# Altium integrated library Maxim Real-Time Clocks (RTCs).IntLib: 548 symbols (part 6 of 13)
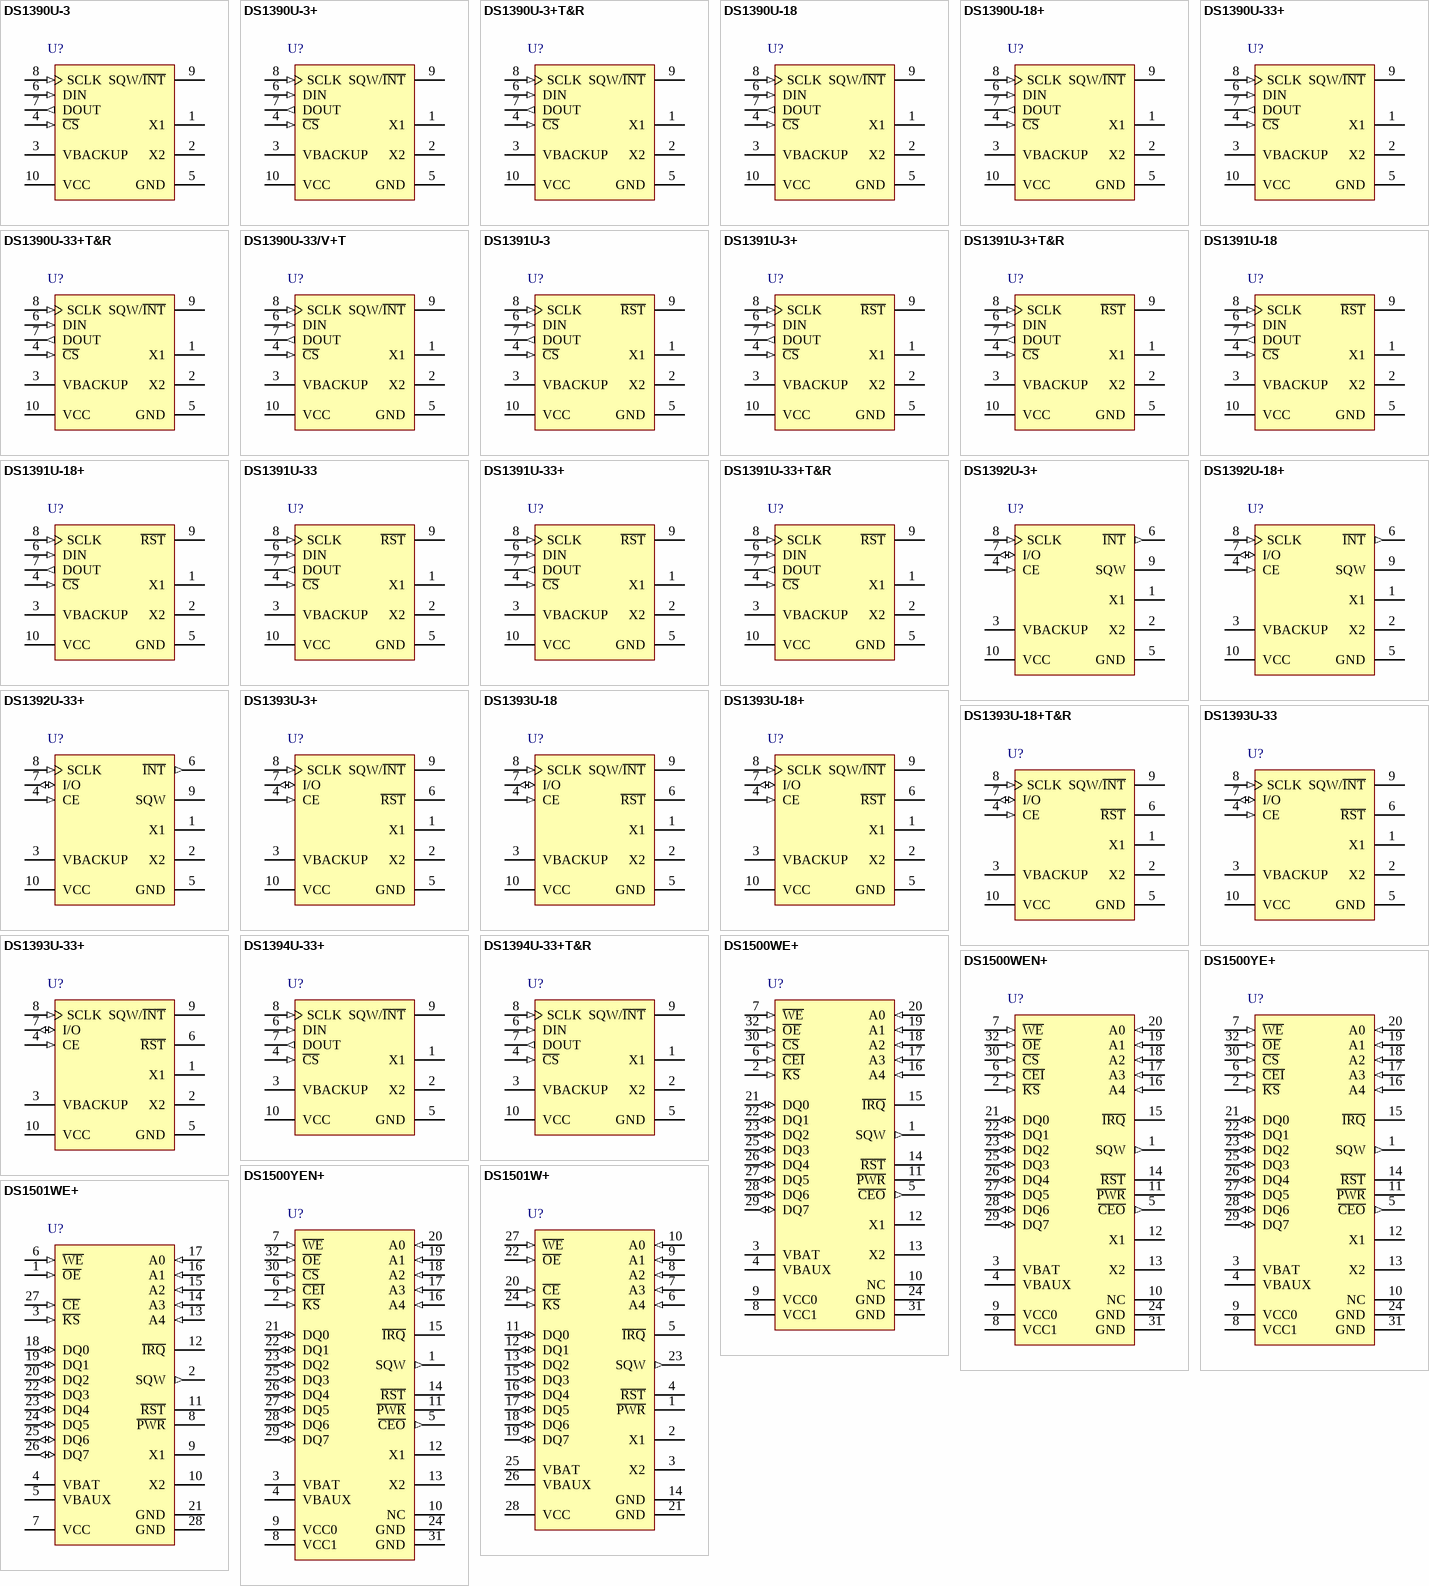
[diagram p26: symbols DS1390U-3 to DS1501WE+]

## DS1390U-33/V+T
designator U?
SPI Real-Time Clock with Trickle Charger, 3.3V, 10-Pin uSOP, -40 to 85 degC, Pb-Free; DatasheetVersion: rev3, Aug-2009; PackageVersion: revL, 2008; PackageReference: U10+2; PackageDescription: 10-Pin Micro-MAX Thin Shrink Small Outline (uSOP), 3 x 3 x 0.85 mm Body, 0.5 mm Pitch, Pb-Free; Code_JEDEC: MO-187-BA; ComponentLink1Description: Manufacturer URL; ComponentLink1URL: http://www.maxim-ic.com; ComponentLink2Description: Datasheet; ComponentLink2URL: http://datasheets.maxim-ic.com/en/ds/DS1390-DS1394.pdf; ComponentLink3Description: Package Specification; ComponentLink3URL: http://pdfserv.maxim-ic.com/package_dwgs/21-0061.PDF
footprint U10+2_N (TSSOP, 10-Leads, Body 3x3mm, Pitch 0.5mm, IPC Medium Density)
footprint U10+2_L (TSSOP, 10-Leads, Body 3x3mm, Pitch 0.5mm, IPC High Density)
footprint U10+2_M (TSSOP, 10-Leads, Body 3x3mm, Pitch 0.5mm, IPC Low Density)
pins: 1 X1, 2 X2, 3 VBACKUP (power), 4 ~{CS} (in), 5 GND (power), 6 DIN (in), 7 DOUT (out), 8 SCLK (in), 9 SQW/~{INT} (oc), 10 VCC (power)

## DS1391U-3
designator U?
SPI Real-Time Clock with Trickle Charger, 3.0V, 10-Pin uSOP, -40 to 85 degC; DatasheetVersion: rev3, Aug-2009; PackageVersion: revL, 2008; PackageReference: U10-2; PackageDescription: 10-Pin Micro-MAX Thin Shrink Small Outline (uSOP), 3 x 3 x 0.85 mm Body, 0.5 mm Pitch; Code_JEDEC: MO-187-BA; ComponentLink1Description: Manufacturer URL; ComponentLink1URL: http://www.maxim-ic.com; ComponentLink2Description: Datasheet; ComponentLink2URL: http://datasheets.maxim-ic.com/en/ds/DS1390-DS1394.pdf; ComponentLink3Description: Package Specification; ComponentLink3URL: http://pdfserv.maxim-ic.com/package_dwgs/21-0061.PDF
footprint U10-2_N (TSSOP, 10-Leads, Body 3x3mm, Pitch 0.5mm, IPC Medium Density)
footprint U10-2_L (TSSOP, 10-Leads, Body 3x3mm, Pitch 0.5mm, IPC High Density)
footprint U10-2_M (TSSOP, 10-Leads, Body 3x3mm, Pitch 0.5mm, IPC Low Density)
pins: 1 X1, 2 X2, 3 VBACKUP (power), 4 ~{CS} (in), 5 GND (power), 6 DIN (in), 7 DOUT (out), 8 SCLK (in), 9 ~{RST} (hiz), 10 VCC (power)

## DS1391U-3+
designator U?
SPI Real-Time Clock with Trickle Charger, 3.0V, 10-Pin uSOP, -40 to 85 degC, Pb-Free; DatasheetVersion: rev3, Aug-2009; PackageVersion: revL, 2008; PackageReference: U10+2; PackageDescription: 10-Pin Micro-MAX Thin Shrink Small Outline (uSOP), 3 x 3 x 0.85 mm Body, 0.5 mm Pitch, Pb-Free; Code_JEDEC: MO-187-BA; ComponentLink1Description: Manufacturer URL; ComponentLink1URL: http://www.maxim-ic.com; ComponentLink2Description: Datasheet; ComponentLink2URL: http://datasheets.maxim-ic.com/en/ds/DS1390-DS1394.pdf; ComponentLink3Description: Package Specification; ComponentLink3URL: http://pdfserv.maxim-ic.com/package_dwgs/21-0061.PDF
footprint U10+2_N (TSSOP, 10-Leads, Body 3x3mm, Pitch 0.5mm, IPC Medium Density)
footprint U10+2_L (TSSOP, 10-Leads, Body 3x3mm, Pitch 0.5mm, IPC High Density)
footprint U10+2_M (TSSOP, 10-Leads, Body 3x3mm, Pitch 0.5mm, IPC Low Density)
pins: 1 X1, 2 X2, 3 VBACKUP (power), 4 ~{CS} (in), 5 GND (power), 6 DIN (in), 7 DOUT (out), 8 SCLK (in), 9 ~{RST} (hiz), 10 VCC (power)

## DS1391U-3+T&R
designator U?
SPI Real-Time Clock with Trickle Charger, 3.0V, 10-Pin uSOP, -40 to 85 degC, Pb-Free, Reel; DatasheetVersion: rev3, Aug-2009; PackageVersion: revL, 2008; PackageReference: U10+2; PackageDescription: 10-Pin Micro-MAX Thin Shrink Small Outline (uSOP), 3 x 3 x 0.85 mm Body, 0.5 mm Pitch, Pb-Free; Code_JEDEC: MO-187-BA; ComponentLink1Description: Manufacturer URL; ComponentLink1URL: http://www.maxim-ic.com; ComponentLink2Description: Datasheet; ComponentLink2URL: http://datasheets.maxim-ic.com/en/ds/DS1390-DS1394.pdf; ComponentLink3Description: Package Specification; ComponentLink3URL: http://pdfserv.maxim-ic.com/package_dwgs/21-0061.PDF
footprint U10+2_N (TSSOP, 10-Leads, Body 3x3mm, Pitch 0.5mm, IPC Medium Density)
footprint U10+2_L (TSSOP, 10-Leads, Body 3x3mm, Pitch 0.5mm, IPC High Density)
footprint U10+2_M (TSSOP, 10-Leads, Body 3x3mm, Pitch 0.5mm, IPC Low Density)
pins: 1 X1, 2 X2, 3 VBACKUP (power), 4 ~{CS} (in), 5 GND (power), 6 DIN (in), 7 DOUT (out), 8 SCLK (in), 9 ~{RST} (hiz), 10 VCC (power)

## DS1391U-18
designator U?
SPI Real-Time Clock with Trickle Charger, 1.8V, 10-Pin uSOP, -40 to 85 degC; DatasheetVersion: rev3, Aug-2009; PackageVersion: revL, 2008; PackageReference: U10-2; PackageDescription: 10-Pin Micro-MAX Thin Shrink Small Outline (uSOP), 3 x 3 x 0.85 mm Body, 0.5 mm Pitch; Code_JEDEC: MO-187-BA; ComponentLink1Description: Manufacturer URL; ComponentLink1URL: http://www.maxim-ic.com; ComponentLink2Description: Datasheet; ComponentLink2URL: http://datasheets.maxim-ic.com/en/ds/DS1390-DS1394.pdf; ComponentLink3Description: Package Specification; ComponentLink3URL: http://pdfserv.maxim-ic.com/package_dwgs/21-0061.PDF
footprint U10-2_N (TSSOP, 10-Leads, Body 3x3mm, Pitch 0.5mm, IPC Medium Density)
footprint U10-2_L (TSSOP, 10-Leads, Body 3x3mm, Pitch 0.5mm, IPC High Density)
footprint U10-2_M (TSSOP, 10-Leads, Body 3x3mm, Pitch 0.5mm, IPC Low Density)
pins: 1 X1, 2 X2, 3 VBACKUP (power), 4 ~{CS} (in), 5 GND (power), 6 DIN (in), 7 DOUT (out), 8 SCLK (in), 9 ~{RST} (hiz), 10 VCC (power)

## DS1391U-18+
designator U?
SPI Real-Time Clock with Trickle Charger, 1.8V, 10-Pin uSOP, -40 to 85 degC, Pb-Free; DatasheetVersion: rev3, Aug-2009; PackageVersion: revL, 2008; PackageReference: U10+2; PackageDescription: 10-Pin Micro-MAX Thin Shrink Small Outline (uSOP), 3 x 3 x 0.85 mm Body, 0.5 mm Pitch, Pb-Free; Code_JEDEC: MO-187-BA; ComponentLink1Description: Manufacturer URL; ComponentLink1URL: http://www.maxim-ic.com; ComponentLink2Description: Datasheet; ComponentLink2URL: http://datasheets.maxim-ic.com/en/ds/DS1390-DS1394.pdf; ComponentLink3Description: Package Specification; ComponentLink3URL: http://pdfserv.maxim-ic.com/package_dwgs/21-0061.PDF
footprint U10+2_N (TSSOP, 10-Leads, Body 3x3mm, Pitch 0.5mm, IPC Medium Density)
footprint U10+2_L (TSSOP, 10-Leads, Body 3x3mm, Pitch 0.5mm, IPC High Density)
footprint U10+2_M (TSSOP, 10-Leads, Body 3x3mm, Pitch 0.5mm, IPC Low Density)
pins: 1 X1, 2 X2, 3 VBACKUP (power), 4 ~{CS} (in), 5 GND (power), 6 DIN (in), 7 DOUT (out), 8 SCLK (in), 9 ~{RST} (hiz), 10 VCC (power)

## DS1391U-33
designator U?
SPI Real-Time Clock with Trickle Charger, 3.3V, 10-Pin uSOP, -40 to 85 degC; DatasheetVersion: rev3, Aug-2009; PackageVersion: revL, 2008; PackageReference: U10-2; PackageDescription: 10-Pin Micro-MAX Thin Shrink Small Outline (uSOP), 3 x 3 x 0.85 mm Body, 0.5 mm Pitch; Code_JEDEC: MO-187-BA; ComponentLink1Description: Manufacturer URL; ComponentLink1URL: http://www.maxim-ic.com; ComponentLink2Description: Datasheet; ComponentLink2URL: http://datasheets.maxim-ic.com/en/ds/DS1390-DS1394.pdf; ComponentLink3Description: Package Specification; ComponentLink3URL: http://pdfserv.maxim-ic.com/package_dwgs/21-0061.PDF
footprint U10-2_N (TSSOP, 10-Leads, Body 3x3mm, Pitch 0.5mm, IPC Medium Density)
footprint U10-2_L (TSSOP, 10-Leads, Body 3x3mm, Pitch 0.5mm, IPC High Density)
footprint U10-2_M (TSSOP, 10-Leads, Body 3x3mm, Pitch 0.5mm, IPC Low Density)
pins: 1 X1, 2 X2, 3 VBACKUP (power), 4 ~{CS} (in), 5 GND (power), 6 DIN (in), 7 DOUT (out), 8 SCLK (in), 9 ~{RST} (hiz), 10 VCC (power)

## DS1391U-33+
designator U?
SPI Real-Time Clock with Trickle Charger, 3.3V, 10-Pin uSOP, -40 to 85 degC, Pb-Free; DatasheetVersion: rev3, Aug-2009; PackageVersion: revL, 2008; PackageReference: U10+2; PackageDescription: 10-Pin Micro-MAX Thin Shrink Small Outline (uSOP), 3 x 3 x 0.85 mm Body, 0.5 mm Pitch, Pb-Free; Code_JEDEC: MO-187-BA; ComponentLink1Description: Manufacturer URL; ComponentLink1URL: http://www.maxim-ic.com; ComponentLink2Description: Datasheet; ComponentLink2URL: http://datasheets.maxim-ic.com/en/ds/DS1390-DS1394.pdf; ComponentLink3Description: Package Specification; ComponentLink3URL: http://pdfserv.maxim-ic.com/package_dwgs/21-0061.PDF
footprint U10+2_N (TSSOP, 10-Leads, Body 3x3mm, Pitch 0.5mm, IPC Medium Density)
footprint U10+2_L (TSSOP, 10-Leads, Body 3x3mm, Pitch 0.5mm, IPC High Density)
footprint U10+2_M (TSSOP, 10-Leads, Body 3x3mm, Pitch 0.5mm, IPC Low Density)
pins: 1 X1, 2 X2, 3 VBACKUP (power), 4 ~{CS} (in), 5 GND (power), 6 DIN (in), 7 DOUT (out), 8 SCLK (in), 9 ~{RST} (hiz), 10 VCC (power)

## DS1391U-33+T&R
designator U?
SPI Real-Time Clock with Trickle Charger, 3.3V, 10-Pin uSOP, -40 to 85 degC, Pb-Free, Reel; DatasheetVersion: rev3, Aug-2009; PackageVersion: revL, 2008; PackageReference: U10+2; PackageDescription: 10-Pin Micro-MAX Thin Shrink Small Outline (uSOP), 3 x 3 x 0.85 mm Body, 0.5 mm Pitch, Pb-Free; Code_JEDEC: MO-187-BA; ComponentLink1Description: Manufacturer URL; ComponentLink1URL: http://www.maxim-ic.com; ComponentLink2Description: Datasheet; ComponentLink2URL: http://datasheets.maxim-ic.com/en/ds/DS1390-DS1394.pdf; ComponentLink3Description: Package Specification; ComponentLink3URL: http://pdfserv.maxim-ic.com/package_dwgs/21-0061.PDF
footprint U10+2_N (TSSOP, 10-Leads, Body 3x3mm, Pitch 0.5mm, IPC Medium Density)
footprint U10+2_L (TSSOP, 10-Leads, Body 3x3mm, Pitch 0.5mm, IPC High Density)
footprint U10+2_M (TSSOP, 10-Leads, Body 3x3mm, Pitch 0.5mm, IPC Low Density)
pins: 1 X1, 2 X2, 3 VBACKUP (power), 4 ~{CS} (in), 5 GND (power), 6 DIN (in), 7 DOUT (out), 8 SCLK (in), 9 ~{RST} (hiz), 10 VCC (power)

## DS1392U-3+
designator U?
3-Wire Real-Time Clock with Trickle Charger, 3.0V, 10-Pin uSOP, -40 to 85 degC, Pb-Free; DatasheetVersion: rev3, Aug-2009; PackageVersion: revL, 2008; PackageReference: U10+2; PackageDescription: 10-Pin Micro-MAX Thin Shrink Small Outline (uSOP), 3 x 3 x 0.85 mm Body, 0.5 mm Pitch, Pb-Free; Code_JEDEC: MO-187-BA; ComponentLink1Description: Manufacturer URL; ComponentLink1URL: http://www.maxim-ic.com; ComponentLink2Description: Datasheet; ComponentLink2URL: http://datasheets.maxim-ic.com/en/ds/DS1390-DS1394.pdf; ComponentLink3Description: Package Specification; ComponentLink3URL: http://pdfserv.maxim-ic.com/package_dwgs/21-0061.PDF
footprint U10+2_N (TSSOP, 10-Leads, Body 3x3mm, Pitch 0.5mm, IPC Medium Density)
footprint U10+2_L (TSSOP, 10-Leads, Body 3x3mm, Pitch 0.5mm, IPC High Density)
footprint U10+2_M (TSSOP, 10-Leads, Body 3x3mm, Pitch 0.5mm, IPC Low Density)
pins: 1 X1, 2 X2, 3 VBACKUP (power), 4 CE (in), 5 GND (power), 6 ~{INT} (out), 7 I/O (io), 8 SCLK (in), 9 SQW (oc), 10 VCC (power)

## DS1392U-18+
designator U?
3-Wire Real-Time Clock with Trickle Charger, 1.8V, 10-Pin uSOP, -40 to 85 degC, Pb-Free; DatasheetVersion: rev3, Aug-2009; PackageVersion: revL, 2008; PackageReference: U10+2; PackageDescription: 10-Pin Micro-MAX Thin Shrink Small Outline (uSOP), 3 x 3 x 0.85 mm Body, 0.5 mm Pitch, Pb-Free; Code_JEDEC: MO-187-BA; ComponentLink1Description: Manufacturer URL; ComponentLink1URL: http://www.maxim-ic.com; ComponentLink2Description: Datasheet; ComponentLink2URL: http://datasheets.maxim-ic.com/en/ds/DS1390-DS1394.pdf; ComponentLink3Description: Package Specification; ComponentLink3URL: http://pdfserv.maxim-ic.com/package_dwgs/21-0061.PDF
footprint U10+2_N (TSSOP, 10-Leads, Body 3x3mm, Pitch 0.5mm, IPC Medium Density)
footprint U10+2_L (TSSOP, 10-Leads, Body 3x3mm, Pitch 0.5mm, IPC High Density)
footprint U10+2_M (TSSOP, 10-Leads, Body 3x3mm, Pitch 0.5mm, IPC Low Density)
pins: 1 X1, 2 X2, 3 VBACKUP (power), 4 CE (in), 5 GND (power), 6 ~{INT} (out), 7 I/O (io), 8 SCLK (in), 9 SQW (oc), 10 VCC (power)

## DS1392U-33+
designator U?
3-Wire Real-Time Clock with Trickle Charger, 3.3V, 10-Pin uSOP, -40 to 85 degC, Pb-Free; DatasheetVersion: rev3, Aug-2009; PackageVersion: revL, 2008; PackageReference: U10+2; PackageDescription: 10-Pin Micro-MAX Thin Shrink Small Outline (uSOP), 3 x 3 x 0.85 mm Body, 0.5 mm Pitch, Pb-Free; Code_JEDEC: MO-187-BA; ComponentLink1Description: Manufacturer URL; ComponentLink1URL: http://www.maxim-ic.com; ComponentLink2Description: Datasheet; ComponentLink2URL: http://datasheets.maxim-ic.com/en/ds/DS1390-DS1394.pdf; ComponentLink3Description: Package Specification; ComponentLink3URL: http://pdfserv.maxim-ic.com/package_dwgs/21-0061.PDF
footprint U10+2_N (TSSOP, 10-Leads, Body 3x3mm, Pitch 0.5mm, IPC Medium Density)
footprint U10+2_L (TSSOP, 10-Leads, Body 3x3mm, Pitch 0.5mm, IPC High Density)
footprint U10+2_M (TSSOP, 10-Leads, Body 3x3mm, Pitch 0.5mm, IPC Low Density)
pins: 1 X1, 2 X2, 3 VBACKUP (power), 4 CE (in), 5 GND (power), 6 ~{INT} (out), 7 I/O (io), 8 SCLK (in), 9 SQW (oc), 10 VCC (power)

## DS1393U-3+
designator U?
3-Wire Real-Time Clock with Trickle Charger, 3.0V, 10-Pin uSOP, -40 to 85 degC, Pb-Free; DatasheetVersion: rev3, Aug-2009; PackageVersion: revL, 2008; PackageReference: U10+2; PackageDescription: 10-Pin Micro-MAX Thin Shrink Small Outline (uSOP), 3 x 3 x 0.85 mm Body, 0.5 mm Pitch, Pb-Free; Code_JEDEC: MO-187-BA; ComponentLink1Description: Manufacturer URL; ComponentLink1URL: http://www.maxim-ic.com; ComponentLink2Description: Datasheet; ComponentLink2URL: http://datasheets.maxim-ic.com/en/ds/DS1390-DS1394.pdf; ComponentLink3Description: Package Specification; ComponentLink3URL: http://pdfserv.maxim-ic.com/package_dwgs/21-0061.PDF
footprint U10+2_N (TSSOP, 10-Leads, Body 3x3mm, Pitch 0.5mm, IPC Medium Density)
footprint U10+2_L (TSSOP, 10-Leads, Body 3x3mm, Pitch 0.5mm, IPC High Density)
footprint U10+2_M (TSSOP, 10-Leads, Body 3x3mm, Pitch 0.5mm, IPC Low Density)
pins: 1 X1, 2 X2, 3 VBACKUP (power), 4 CE (in), 5 GND (power), 6 ~{RST} (hiz), 7 I/O (io), 8 SCLK (in), 9 SQW/~{INT} (oc), 10 VCC (power)

## DS1393U-18
designator U?
3-Wire Real-Time Clock with Trickle Charger, 1.8V, 10-Pin uSOP, -40 to 85 degC; DatasheetVersion: rev3, Aug-2009; PackageVersion: revL, 2008; PackageReference: U10-2; PackageDescription: 10-Pin Micro-MAX Thin Shrink Small Outline (uSOP), 3 x 3 x 0.85 mm Body, 0.5 mm Pitch; Code_JEDEC: MO-187-BA; ComponentLink1Description: Manufacturer URL; ComponentLink1URL: http://www.maxim-ic.com; ComponentLink2Description: Datasheet; ComponentLink2URL: http://datasheets.maxim-ic.com/en/ds/DS1390-DS1394.pdf; ComponentLink3Description: Package Specification; ComponentLink3URL: http://pdfserv.maxim-ic.com/package_dwgs/21-0061.PDF
footprint U10-2_N (TSSOP, 10-Leads, Body 3x3mm, Pitch 0.5mm, IPC Medium Density)
footprint U10-2_L (TSSOP, 10-Leads, Body 3x3mm, Pitch 0.5mm, IPC High Density)
footprint U10-2_M (TSSOP, 10-Leads, Body 3x3mm, Pitch 0.5mm, IPC Low Density)
pins: 1 X1, 2 X2, 3 VBACKUP (power), 4 CE (in), 5 GND (power), 6 ~{RST} (hiz), 7 I/O (io), 8 SCLK (in), 9 SQW/~{INT} (oc), 10 VCC (power)

## DS1393U-18+
designator U?
3-Wire Real-Time Clock with Trickle Charger, 1.8V, 10-Pin uSOP, -40 to 85 degC, Pb-Free; DatasheetVersion: rev3, Aug-2009; PackageVersion: revL, 2008; PackageReference: U10+2; PackageDescription: 10-Pin Micro-MAX Thin Shrink Small Outline (uSOP), 3 x 3 x 0.85 mm Body, 0.5 mm Pitch, Pb-Free; Code_JEDEC: MO-187-BA; ComponentLink1Description: Manufacturer URL; ComponentLink1URL: http://www.maxim-ic.com; ComponentLink2Description: Datasheet; ComponentLink2URL: http://datasheets.maxim-ic.com/en/ds/DS1390-DS1394.pdf; ComponentLink3Description: Package Specification; ComponentLink3URL: http://pdfserv.maxim-ic.com/package_dwgs/21-0061.PDF
footprint U10+2_N (TSSOP, 10-Leads, Body 3x3mm, Pitch 0.5mm, IPC Medium Density)
footprint U10+2_L (TSSOP, 10-Leads, Body 3x3mm, Pitch 0.5mm, IPC High Density)
footprint U10+2_M (TSSOP, 10-Leads, Body 3x3mm, Pitch 0.5mm, IPC Low Density)
pins: 1 X1, 2 X2, 3 VBACKUP (power), 4 CE (in), 5 GND (power), 6 ~{RST} (hiz), 7 I/O (io), 8 SCLK (in), 9 SQW/~{INT} (oc), 10 VCC (power)

## DS1393U-18+T&R
designator U?
3-Wire Real-Time Clock with Trickle Charger, 1.8V, 10-Pin uSOP, -40 to 85 degC, Pb-Free, Reel; DatasheetVersion: rev3, Aug-2009; PackageVersion: revL, 2008; PackageReference: U10+2; PackageDescription: 10-Pin Micro-MAX Thin Shrink Small Outline (uSOP), 3 x 3 x 0.85 mm Body, 0.5 mm Pitch, Pb-Free; Code_JEDEC: MO-187-BA; ComponentLink1Description: Manufacturer URL; ComponentLink1URL: http://www.maxim-ic.com; ComponentLink2Description: Datasheet; ComponentLink2URL: http://datasheets.maxim-ic.com/en/ds/DS1390-DS1394.pdf; ComponentLink3Description: Package Specification; ComponentLink3URL: http://pdfserv.maxim-ic.com/package_dwgs/21-0061.PDF
footprint U10+2_N (TSSOP, 10-Leads, Body 3x3mm, Pitch 0.5mm, IPC Medium Density)
footprint U10+2_L (TSSOP, 10-Leads, Body 3x3mm, Pitch 0.5mm, IPC High Density)
footprint U10+2_M (TSSOP, 10-Leads, Body 3x3mm, Pitch 0.5mm, IPC Low Density)
pins: 1 X1, 2 X2, 3 VBACKUP (power), 4 CE (in), 5 GND (power), 6 ~{RST} (hiz), 7 I/O (io), 8 SCLK (in), 9 SQW/~{INT} (oc), 10 VCC (power)

## DS1393U-33
designator U?
3-Wire Real-Time Clock with Trickle Charger, 3.3V, 10-Pin uSOP, -40 to 85 degC; DatasheetVersion: rev3, Aug-2009; PackageVersion: revL, 2008; PackageReference: U10-2; PackageDescription: 10-Pin Micro-MAX Thin Shrink Small Outline (uSOP), 3 x 3 x 0.85 mm Body, 0.5 mm Pitch; Code_JEDEC: MO-187-BA; ComponentLink1Description: Manufacturer URL; ComponentLink1URL: http://www.maxim-ic.com; ComponentLink2Description: Datasheet; ComponentLink2URL: http://datasheets.maxim-ic.com/en/ds/DS1390-DS1394.pdf; ComponentLink3Description: Package Specification; ComponentLink3URL: http://pdfserv.maxim-ic.com/package_dwgs/21-0061.PDF
footprint U10-2_N (TSSOP, 10-Leads, Body 3x3mm, Pitch 0.5mm, IPC Medium Density)
footprint U10-2_L (TSSOP, 10-Leads, Body 3x3mm, Pitch 0.5mm, IPC High Density)
footprint U10-2_M (TSSOP, 10-Leads, Body 3x3mm, Pitch 0.5mm, IPC Low Density)
pins: 1 X1, 2 X2, 3 VBACKUP (power), 4 CE (in), 5 GND (power), 6 ~{RST} (hiz), 7 I/O (io), 8 SCLK (in), 9 SQW/~{INT} (oc), 10 VCC (power)

## DS1393U-33+
designator U?
3-Wire Real-Time Clock with Trickle Charger, 3.3V, 10-Pin uSOP, -40 to 85 degC, Pb-Free; DatasheetVersion: rev3, Aug-2009; PackageVersion: revL, 2008; PackageReference: U10+2; PackageDescription: 10-Pin Micro-MAX Thin Shrink Small Outline (uSOP), 3 x 3 x 0.85 mm Body, 0.5 mm Pitch, Pb-Free; Code_JEDEC: MO-187-BA; ComponentLink1Description: Manufacturer URL; ComponentLink1URL: http://www.maxim-ic.com; ComponentLink2Description: Datasheet; ComponentLink2URL: http://datasheets.maxim-ic.com/en/ds/DS1390-DS1394.pdf; ComponentLink3Description: Package Specification; ComponentLink3URL: http://pdfserv.maxim-ic.com/package_dwgs/21-0061.PDF
footprint U10+2_N (TSSOP, 10-Leads, Body 3x3mm, Pitch 0.5mm, IPC Medium Density)
footprint U10+2_L (TSSOP, 10-Leads, Body 3x3mm, Pitch 0.5mm, IPC High Density)
footprint U10+2_M (TSSOP, 10-Leads, Body 3x3mm, Pitch 0.5mm, IPC Low Density)
pins: 1 X1, 2 X2, 3 VBACKUP (power), 4 CE (in), 5 GND (power), 6 ~{RST} (hiz), 7 I/O (io), 8 SCLK (in), 9 SQW/~{INT} (oc), 10 VCC (power)

## DS1394U-33+
designator U?
SPI Real-Time Clock with Trickle Charger, 3.3V, 10-Pin uSOP, -40 to 85 degC, Pb-Free; DatasheetVersion: rev3, Aug-2009; PackageVersion: revL, 2008; PackageReference: U10+2; PackageDescription: 10-Pin Micro-MAX Thin Shrink Small Outline (uSOP), 3 x 3 x 0.85 mm Body, 0.5 mm Pitch, Pb-Free; Code_JEDEC: MO-187-BA; ComponentLink1Description: Manufacturer URL; ComponentLink1URL: http://www.maxim-ic.com; ComponentLink2Description: Datasheet; ComponentLink2URL: http://datasheets.maxim-ic.com/en/ds/DS1390-DS1394.pdf; ComponentLink3Description: Package Specification; ComponentLink3URL: http://pdfserv.maxim-ic.com/package_dwgs/21-0061.PDF
footprint U10+2_N (TSSOP, 10-Leads, Body 3x3mm, Pitch 0.5mm, IPC Medium Density)
footprint U10+2_L (TSSOP, 10-Leads, Body 3x3mm, Pitch 0.5mm, IPC High Density)
footprint U10+2_M (TSSOP, 10-Leads, Body 3x3mm, Pitch 0.5mm, IPC Low Density)
pins: 1 X1, 2 X2, 3 VBACKUP (power), 4 ~{CS} (in), 5 GND (power), 6 DIN (in), 7 DOUT (out), 8 SCLK (in), 9 SQW/~{INT} (oc), 10 VCC (power)

## DS1394U-33+T&R
designator U?
SPI Real-Time Clock with Trickle Charger, 3.3V, 10-Pin uSOP, -40 to 85 degC, Pb-Free, Reel; DatasheetVersion: rev3, Aug-2009; PackageVersion: revL, 2008; PackageReference: U10+2; PackageDescription: 10-Pin Micro-MAX Thin Shrink Small Outline (uSOP), 3 x 3 x 0.85 mm Body, 0.5 mm Pitch, Pb-Free; Code_JEDEC: MO-187-BA; ComponentLink1Description: Manufacturer URL; ComponentLink1URL: http://www.maxim-ic.com; ComponentLink2Description: Datasheet; ComponentLink2URL: http://datasheets.maxim-ic.com/en/ds/DS1390-DS1394.pdf; ComponentLink3Description: Package Specification; ComponentLink3URL: http://pdfserv.maxim-ic.com/package_dwgs/21-0061.PDF
footprint U10+2_N (TSSOP, 10-Leads, Body 3x3mm, Pitch 0.5mm, IPC Medium Density)
footprint U10+2_L (TSSOP, 10-Leads, Body 3x3mm, Pitch 0.5mm, IPC High Density)
footprint U10+2_M (TSSOP, 10-Leads, Body 3x3mm, Pitch 0.5mm, IPC Low Density)
pins: 1 X1, 2 X2, 3 VBACKUP (power), 4 ~{CS} (in), 5 GND (power), 6 DIN (in), 7 DOUT (out), 8 SCLK (in), 9 SQW/~{INT} (oc), 10 VCC (power)

## DS1500WE+
designator U?
Y2K-Compliant Watchdog Real-Time Clock, NV SRAM Control, 3.3V, , 32-Pin TSOP, 0 to 70 degC, Pb-Free; DatasheetVersion: Nov-2011; PackageVersion: revB, 2010; PackageReference: Z32+4; PackageDescription: 32-Pin Thin Small Outline Package 0.5 mm Pitch, TSOP(1), 8 x 20 mm Body, Pb-Free; ComponentLink1Description: Manufacturer URL; ComponentLink1URL: http://www.maxim-ic.com; ComponentLink2Description: Datasheet; ComponentLink2URL: http://datasheets.maxim-ic.com/en/ds/DS1500.pdf; ComponentLink3Description: Package Specification; ComponentLink3URL: http://pdfserv.maxim-ic.com/package_dwgs/21-0274.PDF
footprint Z32+4_N (TSSOP, 10-Leads, Body 8x18.4mm, Pitch 0.5mm, IPC Medium Density)
footprint Z32+4_L (TSSOP, 10-Leads, Body 8x18.4mm, Pitch 0.5mm, IPC High Density)
footprint Z32+4_M (TSSOP, 10-Leads, Body 8x18.4mm, Pitch 0.5mm, IPC Low Density)
pins: 1 SQW (out), 2 ~{KS} (in), 3 VBAT (power), 4 VBAUX (power), 5 ~{CEO} (out), 6 ~{CEI} (in), 7 ~{WE} (in), 8 VCC1 (power), 9 VCC0 (power), 10 NC, 11 ~{PWR} (oc), 12 X1, 13 X2, 14 ~{RST} (oc), 15 ~{IRQ} (oc), 16 A4 (in), 17 A3 (in), 18 A2 (in), 19 A1 (in), 20 A0 (in), 21 DQ0 (io), 22 DQ1 (io), 23 DQ2 (io), 24 GND (power), 25 DQ3 (io), 26 DQ4 (io), 27 DQ5 (io), 28 DQ6 (io), 29 DQ7 (io), 30 ~{CS} (in), 31 GND (power), 32 ~{OE} (in)

## DS1500WEN+
designator U?
Y2K-Compliant Watchdog Real-Time Clock, NV SRAM Control, 3.3V, , 32-Pin TSOP, -40 to 85 degC, Pb-Free; DatasheetVersion: Nov-2011; PackageVersion: revB, 2010; PackageReference: Z32+4; PackageDescription: 32-Pin Thin Small Outline Package 0.5 mm Pitch, TSOP(1), 8 x 20 mm Body, Pb-Free; ComponentLink1Description: Manufacturer URL; ComponentLink1URL: http://www.maxim-ic.com; ComponentLink2Description: Datasheet; ComponentLink2URL: http://datasheets.maxim-ic.com/en/ds/DS1500.pdf; ComponentLink3Description: Package Specification; ComponentLink3URL: http://pdfserv.maxim-ic.com/package_dwgs/21-0274.PDF
footprint Z32+4_N (TSSOP, 10-Leads, Body 8x18.4mm, Pitch 0.5mm, IPC Medium Density)
footprint Z32+4_L (TSSOP, 10-Leads, Body 8x18.4mm, Pitch 0.5mm, IPC High Density)
footprint Z32+4_M (TSSOP, 10-Leads, Body 8x18.4mm, Pitch 0.5mm, IPC Low Density)
pins: 1 SQW (out), 2 ~{KS} (in), 3 VBAT (power), 4 VBAUX (power), 5 ~{CEO} (out), 6 ~{CEI} (in), 7 ~{WE} (in), 8 VCC1 (power), 9 VCC0 (power), 10 NC, 11 ~{PWR} (oc), 12 X1, 13 X2, 14 ~{RST} (oc), 15 ~{IRQ} (oc), 16 A4 (in), 17 A3 (in), 18 A2 (in), 19 A1 (in), 20 A0 (in), 21 DQ0 (io), 22 DQ1 (io), 23 DQ2 (io), 24 GND (power), 25 DQ3 (io), 26 DQ4 (io), 27 DQ5 (io), 28 DQ6 (io), 29 DQ7 (io), 30 ~{CS} (in), 31 GND (power), 32 ~{OE} (in)

## DS1500YE+
designator U?
Y2K-Compliant Watchdog Real-Time Clock, NV SRAM Control, 5.0V, 32-Pin TSOP, 0 to 70 degC, Pb-Free; DatasheetVersion: Nov-2011; PackageVersion: revB, 2010; PackageReference: Z32+4; PackageDescription: 32-Pin Thin Small Outline Package 0.5 mm Pitch, TSOP(1), 8 x 20 mm Body, Pb-Free; ComponentLink1Description: Manufacturer URL; ComponentLink1URL: http://www.maxim-ic.com; ComponentLink2Description: Datasheet; ComponentLink2URL: http://datasheets.maxim-ic.com/en/ds/DS1500.pdf; ComponentLink3Description: Package Specification; ComponentLink3URL: http://pdfserv.maxim-ic.com/package_dwgs/21-0274.PDF
footprint Z32+4_N (TSSOP, 10-Leads, Body 8x18.4mm, Pitch 0.5mm, IPC Medium Density)
footprint Z32+4_L (TSSOP, 10-Leads, Body 8x18.4mm, Pitch 0.5mm, IPC High Density)
footprint Z32+4_M (TSSOP, 10-Leads, Body 8x18.4mm, Pitch 0.5mm, IPC Low Density)
pins: 1 SQW (out), 2 ~{KS} (in), 3 VBAT (power), 4 VBAUX (power), 5 ~{CEO} (out), 6 ~{CEI} (in), 7 ~{WE} (in), 8 VCC1 (power), 9 VCC0 (power), 10 NC, 11 ~{PWR} (oc), 12 X1, 13 X2, 14 ~{RST} (oc), 15 ~{IRQ} (oc), 16 A4 (in), 17 A3 (in), 18 A2 (in), 19 A1 (in), 20 A0 (in), 21 DQ0 (io), 22 DQ1 (io), 23 DQ2 (io), 24 GND (power), 25 DQ3 (io), 26 DQ4 (io), 27 DQ5 (io), 28 DQ6 (io), 29 DQ7 (io), 30 ~{CS} (in), 31 GND (power), 32 ~{OE} (in)

## DS1500YEN+
designator U?
Y2K-Compliant Watchdog Real-Time Clock, NV SRAM Control, 5.0V, 32-Pin TSOP, -40 to 85 degC, Pb-Free; DatasheetVersion: Nov-2011; PackageVersion: revB, 2010; PackageReference: Z32+4; PackageDescription: 32-Pin Thin Small Outline Package 0.5 mm Pitch, TSOP(1), 8 x 20 mm Body, Pb-Free; ComponentLink1Description: Manufacturer URL; ComponentLink1URL: http://www.maxim-ic.com; ComponentLink2Description: Datasheet; ComponentLink2URL: http://datasheets.maxim-ic.com/en/ds/DS1500.pdf; ComponentLink3Description: Package Specification; ComponentLink3URL: http://pdfserv.maxim-ic.com/package_dwgs/21-0274.PDF
footprint Z32+4_N (TSSOP, 10-Leads, Body 8x18.4mm, Pitch 0.5mm, IPC Medium Density)
footprint Z32+4_L (TSSOP, 10-Leads, Body 8x18.4mm, Pitch 0.5mm, IPC High Density)
footprint Z32+4_M (TSSOP, 10-Leads, Body 8x18.4mm, Pitch 0.5mm, IPC Low Density)
pins: 1 SQW (out), 2 ~{KS} (in), 3 VBAT (power), 4 VBAUX (power), 5 ~{CEO} (out), 6 ~{CEI} (in), 7 ~{WE} (in), 8 VCC1 (power), 9 VCC0 (power), 10 NC, 11 ~{PWR} (oc), 12 X1, 13 X2, 14 ~{RST} (oc), 15 ~{IRQ} (oc), 16 A4 (in), 17 A3 (in), 18 A2 (in), 19 A1 (in), 20 A0 (in), 21 DQ0 (io), 22 DQ1 (io), 23 DQ2 (io), 24 GND (power), 25 DQ3 (io), 26 DQ4 (io), 27 DQ5 (io), 28 DQ6 (io), 29 DQ7 (io), 30 ~{CS} (in), 31 GND (power), 32 ~{OE} (in)

## DS1501W+
designator U?
Y2K-Compliant Watchdog Real-Time Clock, 3.3V, 28-Pin PDIP, 0 to 70 degC, Pb-Free; DatasheetVersion: 9-Jan-2009; PackageVersion: revD, 2011; PackageReference: P28+5; PackageDescription: 28-Pin Plastic Dual-In-Line, 0.6in Wide, PDIP(W), Pb-Free; Code_JEDEC: MS-011-AB; ComponentLink1Description: Manufacturer URL; ComponentLink1URL: http://www.maxim-ic.com; ComponentLink2Description: Datasheet; ComponentLink2URL: http://datasheets.maxim-ic.com/en/ds/DS1501-DS1511.pdf; ComponentLink3Description: Package Specification; ComponentLink3URL: http://pdfserv.maxim-ic.com/package_dwgs/21-0044.PDF
footprint P28+5 (DIP, 28-Leads, Row Spacing 15.24mm, Pitch 2.54mm, Body 36.8x14mm)
pins: 1 ~{PWR} (oc), 2 X1, 3 X2, 4 ~{RST} (oc), 5 ~{IRQ} (oc), 6 A4 (in), 7 A3 (in), 8 A2 (in), 9 A1 (in), 10 A0 (in), 11 DQ0 (io), 12 DQ1 (io), 13 DQ2 (io), 14 GND (power), 15 DQ3 (io), 16 DQ4 (io), 17 DQ5 (io), 18 DQ6 (io), 19 DQ7 (io), 20 ~{CE} (in), 21 GND (power), 22 ~{OE} (in), 23 SQW (out), 24 ~{KS} (in), 25 VBAT (power), 26 VBAUX (power), 27 ~{WE} (in), 28 VCC (power)

## DS1501WE+
designator U?
Y2K-Compliant Watchdog Real-Time Clock, 3.3V, 28-Pin TSOP, 0 to 70 degC, Pb-Free; DatasheetVersion: 9-Jan-2009; PackageVersion: revB, Mar-2010; PackageReference: Z28+4; PackageDescription: 28-Pin Thin Small-Outline Package, 8.0 x 13.4 mm Body, 0.55 mm Pitch, TSOP(1), Pb-Free; Code_JEDEC: MO-183; ComponentLink1Description: Manufacturer URL; ComponentLink1URL: http://www.maxim-ic.com; ComponentLink2Description: Datasheet; ComponentLink2URL: http://datasheets.maxim-ic.com/en/ds/DS1501-DS1511.pdf; ComponentLink3Description: Package Specification; ComponentLink3URL: http://pdfserv.maxim-ic.com/package_dwgs/21-0273.PDF
footprint Z28+4_N (TSSOP, 28-Leads, Body 8x11.8mm, Pitch 0.55mm, IPC Medium Density)
footprint Z28+4_L (TSSOP, 28-Leads, Body 8x11.8mm, Pitch 0.55mm, IPC High Density)
footprint Z28+4_M (TSSOP, 28-Leads, Body 8x11.8mm, Pitch 0.55mm, IPC Low Density)
pins: 1 ~{OE} (in), 2 SQW (out), 3 ~{KS} (in), 4 VBAT (power), 5 VBAUX (power), 6 ~{WE} (in), 7 VCC (power), 8 ~{PWR} (oc), 9 X1, 10 X2, 11 ~{RST} (oc), 12 ~{IRQ} (oc), 13 A4 (in), 14 A3 (in), 15 A2 (in), 16 A1 (in), 17 A0 (in), 18 DQ0 (io), 19 DQ1 (io), 20 DQ2 (io), 21 GND (power), 22 DQ3 (io), 23 DQ4 (io), 24 DQ5 (io), 25 DQ6 (io), 26 DQ7 (io), 27 ~{CE} (in), 28 GND (power)

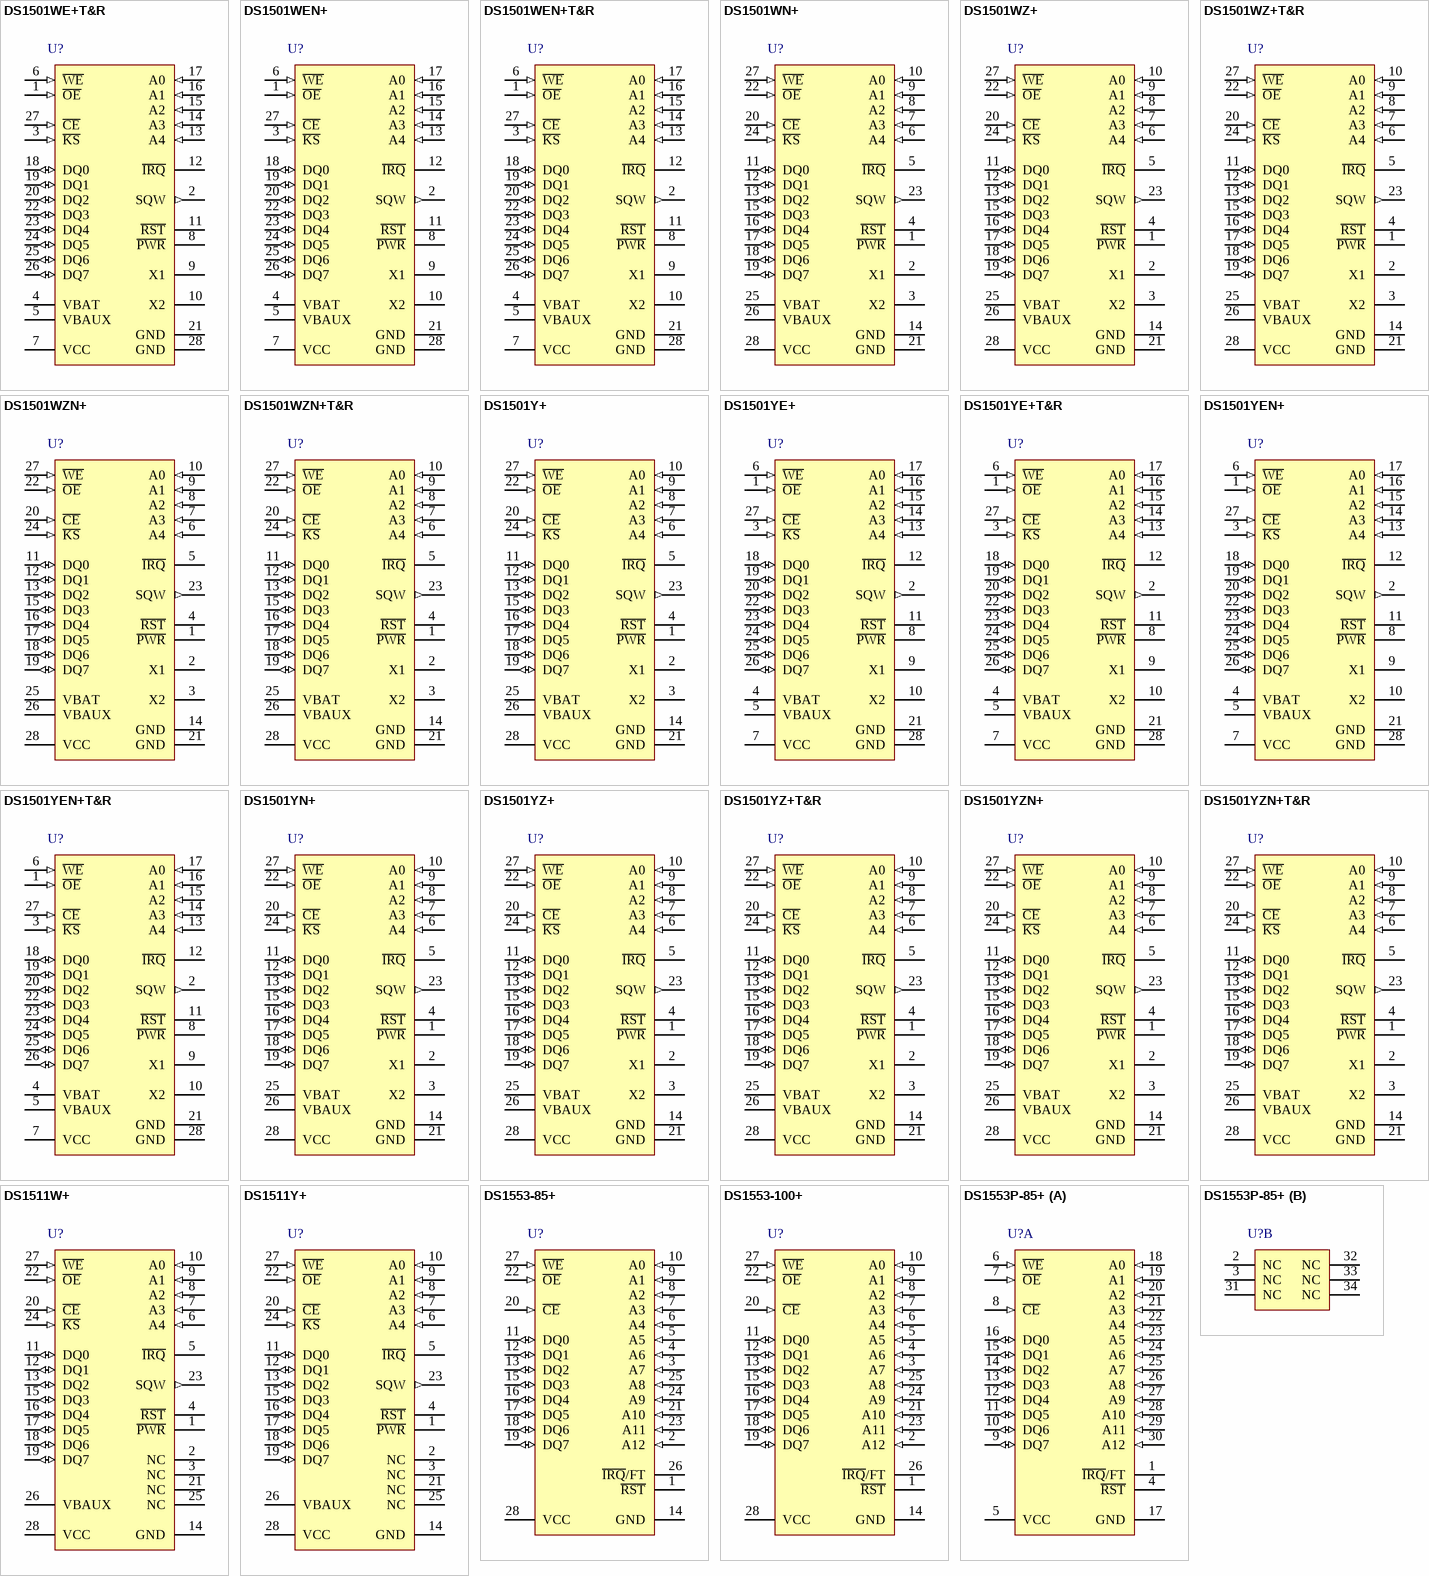
[diagram p9: symbols DS1501WE+T&R to DS1553P-85+]

## DS1501WE+T&R
designator U?
Y2K-Compliant Watchdog Real-Time Clock, 3.3V, 28-Pin TSOP, 0 to 70 degC, Pb-Free, Reel; DatasheetVersion: 9-Jan-2009; PackageVersion: revB, Mar-2010; PackageReference: Z28+4; PackageDescription: 28-Pin Thin Small-Outline Package, 8.0 x 13.4 mm Body, 0.55 mm Pitch, TSOP(1), Pb-Free; Code_JEDEC: MO-183; ComponentLink1Description: Manufacturer URL; ComponentLink1URL: http://www.maxim-ic.com; ComponentLink2Description: Datasheet; ComponentLink2URL: http://datasheets.maxim-ic.com/en/ds/DS1501-DS1511.pdf; ComponentLink3Description: Package Specification; ComponentLink3URL: http://pdfserv.maxim-ic.com/package_dwgs/21-0273.PDF
footprint Z28+4_N (TSSOP, 28-Leads, Body 8x11.8mm, Pitch 0.55mm, IPC Medium Density)
footprint Z28+4_L (TSSOP, 28-Leads, Body 8x11.8mm, Pitch 0.55mm, IPC High Density)
footprint Z28+4_M (TSSOP, 28-Leads, Body 8x11.8mm, Pitch 0.55mm, IPC Low Density)
pins: 1 ~{OE} (in), 2 SQW (out), 3 ~{KS} (in), 4 VBAT (power), 5 VBAUX (power), 6 ~{WE} (in), 7 VCC (power), 8 ~{PWR} (oc), 9 X1, 10 X2, 11 ~{RST} (oc), 12 ~{IRQ} (oc), 13 A4 (in), 14 A3 (in), 15 A2 (in), 16 A1 (in), 17 A0 (in), 18 DQ0 (io), 19 DQ1 (io), 20 DQ2 (io), 21 GND (power), 22 DQ3 (io), 23 DQ4 (io), 24 DQ5 (io), 25 DQ6 (io), 26 DQ7 (io), 27 ~{CE} (in), 28 GND (power)

## DS1501WEN+
designator U?
Y2K-Compliant Watchdog Real-Time Clock, 3.3V, 28-Pin TSOP, -40 to 85 degC, Pb-Free; DatasheetVersion: 9-Jan-2009; PackageVersion: revB, Mar-2010; PackageReference: Z28+4; PackageDescription: 28-Pin Thin Small-Outline Package, 8.0 x 13.4 mm Body, 0.55 mm Pitch, TSOP(1), Pb-Free; Code_JEDEC: MO-183; ComponentLink1Description: Manufacturer URL; ComponentLink1URL: http://www.maxim-ic.com; ComponentLink2Description: Datasheet; ComponentLink2URL: http://datasheets.maxim-ic.com/en/ds/DS1501-DS1511.pdf; ComponentLink3Description: Package Specification; ComponentLink3URL: http://pdfserv.maxim-ic.com/package_dwgs/21-0273.PDF
footprint Z28+4_N (TSSOP, 28-Leads, Body 8x11.8mm, Pitch 0.55mm, IPC Medium Density)
footprint Z28+4_L (TSSOP, 28-Leads, Body 8x11.8mm, Pitch 0.55mm, IPC High Density)
footprint Z28+4_M (TSSOP, 28-Leads, Body 8x11.8mm, Pitch 0.55mm, IPC Low Density)
pins: 1 ~{OE} (in), 2 SQW (out), 3 ~{KS} (in), 4 VBAT (power), 5 VBAUX (power), 6 ~{WE} (in), 7 VCC (power), 8 ~{PWR} (oc), 9 X1, 10 X2, 11 ~{RST} (oc), 12 ~{IRQ} (oc), 13 A4 (in), 14 A3 (in), 15 A2 (in), 16 A1 (in), 17 A0 (in), 18 DQ0 (io), 19 DQ1 (io), 20 DQ2 (io), 21 GND (power), 22 DQ3 (io), 23 DQ4 (io), 24 DQ5 (io), 25 DQ6 (io), 26 DQ7 (io), 27 ~{CE} (in), 28 GND (power)

## DS1501WEN+T&R
designator U?
Y2K-Compliant Watchdog Real-Time Clock, 3.3V, 28-Pin TSOP, -40 to 85 degC, Pb-Free, Reel; DatasheetVersion: 9-Jan-2009; PackageVersion: revB, Mar-2010; PackageReference: Z28+4; PackageDescription: 28-Pin Thin Small-Outline Package, 8.0 x 13.4 mm Body, 0.55 mm Pitch, TSOP(1), Pb-Free; Code_JEDEC: MO-183; ComponentLink1Description: Manufacturer URL; ComponentLink1URL: http://www.maxim-ic.com; ComponentLink2Description: Datasheet; ComponentLink2URL: http://datasheets.maxim-ic.com/en/ds/DS1501-DS1511.pdf; ComponentLink3Description: Package Specification; ComponentLink3URL: http://pdfserv.maxim-ic.com/package_dwgs/21-0273.PDF
footprint Z28+4_N (TSSOP, 28-Leads, Body 8x11.8mm, Pitch 0.55mm, IPC Medium Density)
footprint Z28+4_L (TSSOP, 28-Leads, Body 8x11.8mm, Pitch 0.55mm, IPC High Density)
footprint Z28+4_M (TSSOP, 28-Leads, Body 8x11.8mm, Pitch 0.55mm, IPC Low Density)
pins: 1 ~{OE} (in), 2 SQW (out), 3 ~{KS} (in), 4 VBAT (power), 5 VBAUX (power), 6 ~{WE} (in), 7 VCC (power), 8 ~{PWR} (oc), 9 X1, 10 X2, 11 ~{RST} (oc), 12 ~{IRQ} (oc), 13 A4 (in), 14 A3 (in), 15 A2 (in), 16 A1 (in), 17 A0 (in), 18 DQ0 (io), 19 DQ1 (io), 20 DQ2 (io), 21 GND (power), 22 DQ3 (io), 23 DQ4 (io), 24 DQ5 (io), 25 DQ6 (io), 26 DQ7 (io), 27 ~{CE} (in), 28 GND (power)

## DS1501WN+
designator U?
Y2K-Compliant Watchdog Real-Time Clock, 3.3V, 28-Pin PDIP, -40 to 85 degC, Pb-Free; DatasheetVersion: 9-Jan-2009; PackageVersion: revD, 2011; PackageReference: P28+5; PackageDescription: 28-Pin Plastic Dual-In-Line, 0.6in Wide, PDIP(W), Pb-Free; Code_JEDEC: MS-011-AB; ComponentLink1Description: Manufacturer URL; ComponentLink1URL: http://www.maxim-ic.com; ComponentLink2Description: Datasheet; ComponentLink2URL: http://datasheets.maxim-ic.com/en/ds/DS1501-DS1511.pdf; ComponentLink3Description: Package Specification; ComponentLink3URL: http://pdfserv.maxim-ic.com/package_dwgs/21-0044.PDF
footprint P28+5 (DIP, 28-Leads, Row Spacing 15.24mm, Pitch 2.54mm, Body 36.8x14mm)
pins: 1 ~{PWR} (oc), 2 X1, 3 X2, 4 ~{RST} (oc), 5 ~{IRQ} (oc), 6 A4 (in), 7 A3 (in), 8 A2 (in), 9 A1 (in), 10 A0 (in), 11 DQ0 (io), 12 DQ1 (io), 13 DQ2 (io), 14 GND (power), 15 DQ3 (io), 16 DQ4 (io), 17 DQ5 (io), 18 DQ6 (io), 19 DQ7 (io), 20 ~{CE} (in), 21 GND (power), 22 ~{OE} (in), 23 SQW (out), 24 ~{KS} (in), 25 VBAT (power), 26 VBAUX (power), 27 ~{WE} (in), 28 VCC (power)

## DS1501WZ+
designator U?
Y2K-Compliant Watchdog Real-Time Clock, 3.3V, 28-Pin SO, 0 to 70 degC, Pb-Free; DatasheetVersion: 9-Jan-2009; PackageVersion: revD, 2010; PackageReference: W28+3; PackageDescription: 28-Pin Small-Outline IC, Wide (0.3in), 1.27 mm Pitch, SOIC (W), Pb-Free; Code_JEDEC: MS-013-AE; ComponentLink1Description: Manufacturer URL; ComponentLink1URL: http://www.maxim-ic.com; ComponentLink2Description: Datasheet; ComponentLink2URL: http://datasheets.maxim-ic.com/en/ds/DS1501-DS1511.pdf; ComponentLink3Description: Package Specification; ComponentLink3URL: http://pdfserv.maxim-ic.com/package_dwgs/21-0042.PDF
footprint W28+3_N (SOIC, 28-Leads, Body 17.9x7.5mm, Pitch 1.27mm, IPC Medium Density)
footprint W28+3_L (SOIC, 28-Leads, Body 17.9x7.5mm, Pitch 1.27mm, IPC High Density)
footprint W28+3_M (SOIC, 28-Leads, Body 17.9x7.5mm, Pitch 1.27mm, IPC Low Density)
pins: 1 ~{PWR} (oc), 2 X1, 3 X2, 4 ~{RST} (oc), 5 ~{IRQ} (oc), 6 A4 (in), 7 A3 (in), 8 A2 (in), 9 A1 (in), 10 A0 (in), 11 DQ0 (io), 12 DQ1 (io), 13 DQ2 (io), 14 GND (power), 15 DQ3 (io), 16 DQ4 (io), 17 DQ5 (io), 18 DQ6 (io), 19 DQ7 (io), 20 ~{CE} (in), 21 GND (power), 22 ~{OE} (in), 23 SQW (out), 24 ~{KS} (in), 25 VBAT (power), 26 VBAUX (power), 27 ~{WE} (in), 28 VCC (power)

## DS1501WZ+T&R
designator U?
Y2K-Compliant Watchdog Real-Time Clock, 3.3V, 28-Pin SO, 0 to 70 degC, Pb-Free, Reel; DatasheetVersion: 9-Jan-2009; PackageVersion: revD, 2010; PackageReference: W28+3; PackageDescription: 28-Pin Small-Outline IC, Wide (0.3in), 1.27 mm Pitch, SOIC (W), Pb-Free; Code_JEDEC: MS-013-AE; ComponentLink1Description: Manufacturer URL; ComponentLink1URL: http://www.maxim-ic.com; ComponentLink2Description: Datasheet; ComponentLink2URL: http://datasheets.maxim-ic.com/en/ds/DS1501-DS1511.pdf; ComponentLink3Description: Package Specification; ComponentLink3URL: http://pdfserv.maxim-ic.com/package_dwgs/21-0042.PDF
footprint W28+3_N (SOIC, 28-Leads, Body 17.9x7.5mm, Pitch 1.27mm, IPC Medium Density)
footprint W28+3_L (SOIC, 28-Leads, Body 17.9x7.5mm, Pitch 1.27mm, IPC High Density)
footprint W28+3_M (SOIC, 28-Leads, Body 17.9x7.5mm, Pitch 1.27mm, IPC Low Density)
pins: 1 ~{PWR} (oc), 2 X1, 3 X2, 4 ~{RST} (oc), 5 ~{IRQ} (oc), 6 A4 (in), 7 A3 (in), 8 A2 (in), 9 A1 (in), 10 A0 (in), 11 DQ0 (io), 12 DQ1 (io), 13 DQ2 (io), 14 GND (power), 15 DQ3 (io), 16 DQ4 (io), 17 DQ5 (io), 18 DQ6 (io), 19 DQ7 (io), 20 ~{CE} (in), 21 GND (power), 22 ~{OE} (in), 23 SQW (out), 24 ~{KS} (in), 25 VBAT (power), 26 VBAUX (power), 27 ~{WE} (in), 28 VCC (power)

## DS1501WZN+
designator U?
Y2K-Compliant Watchdog Real-Time Clock, 3.3V, 28-Pin SO, -40 to 85 degC, Pb-Free; DatasheetVersion: 9-Jan-2009; PackageVersion: revD, 2010; PackageReference: W28+3; PackageDescription: 28-Pin Small-Outline IC, Wide (0.3in), 1.27 mm Pitch, SOIC (W), Pb-Free; Code_JEDEC: MS-013-AE; ComponentLink1Description: Manufacturer URL; ComponentLink1URL: http://www.maxim-ic.com; ComponentLink2Description: Datasheet; ComponentLink2URL: http://datasheets.maxim-ic.com/en/ds/DS1501-DS1511.pdf; ComponentLink3Description: Package Specification; ComponentLink3URL: http://pdfserv.maxim-ic.com/package_dwgs/21-0042.PDF
footprint W28+3_N (SOIC, 28-Leads, Body 17.9x7.5mm, Pitch 1.27mm, IPC Medium Density)
footprint W28+3_L (SOIC, 28-Leads, Body 17.9x7.5mm, Pitch 1.27mm, IPC High Density)
footprint W28+3_M (SOIC, 28-Leads, Body 17.9x7.5mm, Pitch 1.27mm, IPC Low Density)
pins: 1 ~{PWR} (oc), 2 X1, 3 X2, 4 ~{RST} (oc), 5 ~{IRQ} (oc), 6 A4 (in), 7 A3 (in), 8 A2 (in), 9 A1 (in), 10 A0 (in), 11 DQ0 (io), 12 DQ1 (io), 13 DQ2 (io), 14 GND (power), 15 DQ3 (io), 16 DQ4 (io), 17 DQ5 (io), 18 DQ6 (io), 19 DQ7 (io), 20 ~{CE} (in), 21 GND (power), 22 ~{OE} (in), 23 SQW (out), 24 ~{KS} (in), 25 VBAT (power), 26 VBAUX (power), 27 ~{WE} (in), 28 VCC (power)

## DS1501WZN+T&R
designator U?
Y2K-Compliant Watchdog Real-Time Clock, 3.3V, 28-Pin SO, -40 to 85 degC, Pb-Free, Reel; DatasheetVersion: 9-Jan-2009; PackageVersion: revD, 2010; PackageReference: W28+3; PackageDescription: 28-Pin Small-Outline IC, Wide (0.3in), 1.27 mm Pitch, SOIC (W), Pb-Free; Code_JEDEC: MS-013-AE; ComponentLink1Description: Manufacturer URL; ComponentLink1URL: http://www.maxim-ic.com; ComponentLink2Description: Datasheet; ComponentLink2URL: http://datasheets.maxim-ic.com/en/ds/DS1501-DS1511.pdf; ComponentLink3Description: Package Specification; ComponentLink3URL: http://pdfserv.maxim-ic.com/package_dwgs/21-0042.PDF
footprint W28+3_N (SOIC, 28-Leads, Body 17.9x7.5mm, Pitch 1.27mm, IPC Medium Density)
footprint W28+3_L (SOIC, 28-Leads, Body 17.9x7.5mm, Pitch 1.27mm, IPC High Density)
footprint W28+3_M (SOIC, 28-Leads, Body 17.9x7.5mm, Pitch 1.27mm, IPC Low Density)
pins: 1 ~{PWR} (oc), 2 X1, 3 X2, 4 ~{RST} (oc), 5 ~{IRQ} (oc), 6 A4 (in), 7 A3 (in), 8 A2 (in), 9 A1 (in), 10 A0 (in), 11 DQ0 (io), 12 DQ1 (io), 13 DQ2 (io), 14 GND (power), 15 DQ3 (io), 16 DQ4 (io), 17 DQ5 (io), 18 DQ6 (io), 19 DQ7 (io), 20 ~{CE} (in), 21 GND (power), 22 ~{OE} (in), 23 SQW (out), 24 ~{KS} (in), 25 VBAT (power), 26 VBAUX (power), 27 ~{WE} (in), 28 VCC (power)

## DS1501Y+
designator U?
Y2K-Compliant Watchdog Real-Time Clock, 5.0V, 28-Pin PDIP, 0 to 70 degC, Pb-Free; DatasheetVersion: 9-Jan-2009; PackageVersion: revD, 2011; PackageReference: P28+5; PackageDescription: 28-Pin Plastic Dual-In-Line, 0.6in Wide, PDIP(W), Pb-Free; Code_JEDEC: MS-011-AB; ComponentLink1Description: Manufacturer URL; ComponentLink1URL: http://www.maxim-ic.com; ComponentLink2Description: Datasheet; ComponentLink2URL: http://datasheets.maxim-ic.com/en/ds/DS1501-DS1511.pdf; ComponentLink3Description: Package Specification; ComponentLink3URL: http://pdfserv.maxim-ic.com/package_dwgs/21-0044.PDF
footprint P28+5 (DIP, 28-Leads, Row Spacing 15.24mm, Pitch 2.54mm, Body 36.8x14mm)
pins: 1 ~{PWR} (oc), 2 X1, 3 X2, 4 ~{RST} (oc), 5 ~{IRQ} (oc), 6 A4 (in), 7 A3 (in), 8 A2 (in), 9 A1 (in), 10 A0 (in), 11 DQ0 (io), 12 DQ1 (io), 13 DQ2 (io), 14 GND (power), 15 DQ3 (io), 16 DQ4 (io), 17 DQ5 (io), 18 DQ6 (io), 19 DQ7 (io), 20 ~{CE} (in), 21 GND (power), 22 ~{OE} (in), 23 SQW (out), 24 ~{KS} (in), 25 VBAT (power), 26 VBAUX (power), 27 ~{WE} (in), 28 VCC (power)

## DS1501YE+
designator U?
Y2K-Compliant Watchdog Real-Time Clock, 5.0V, 28-Pin TSOP, 0 to 70 degC, Pb-Free; DatasheetVersion: 9-Jan-2009; PackageVersion: revB, Mar-2010; PackageReference: Z28+4; PackageDescription: 28-Pin Thin Small-Outline Package, 8.0 x 13.4 mm Body, 0.55 mm Pitch, TSOP(1), Pb-Free; Code_JEDEC: MO-183; ComponentLink1Description: Manufacturer URL; ComponentLink1URL: http://www.maxim-ic.com; ComponentLink2Description: Datasheet; ComponentLink2URL: http://datasheets.maxim-ic.com/en/ds/DS1501-DS1511.pdf; ComponentLink3Description: Package Specification; ComponentLink3URL: http://pdfserv.maxim-ic.com/package_dwgs/21-0273.PDF
footprint Z28+4_N (TSSOP, 28-Leads, Body 8x11.8mm, Pitch 0.55mm, IPC Medium Density)
footprint Z28+4_L (TSSOP, 28-Leads, Body 8x11.8mm, Pitch 0.55mm, IPC High Density)
footprint Z28+4_M (TSSOP, 28-Leads, Body 8x11.8mm, Pitch 0.55mm, IPC Low Density)
pins: 1 ~{OE} (in), 2 SQW (out), 3 ~{KS} (in), 4 VBAT (power), 5 VBAUX (power), 6 ~{WE} (in), 7 VCC (power), 8 ~{PWR} (oc), 9 X1, 10 X2, 11 ~{RST} (oc), 12 ~{IRQ} (oc), 13 A4 (in), 14 A3 (in), 15 A2 (in), 16 A1 (in), 17 A0 (in), 18 DQ0 (io), 19 DQ1 (io), 20 DQ2 (io), 21 GND (power), 22 DQ3 (io), 23 DQ4 (io), 24 DQ5 (io), 25 DQ6 (io), 26 DQ7 (io), 27 ~{CE} (in), 28 GND (power)

## DS1501YE+T&R
designator U?
Y2K-Compliant Watchdog Real-Time Clock, 5.0V, 28-Pin TSOP, 0 to 70 degC, Pb-Free, Reel; DatasheetVersion: 9-Jan-2009; PackageVersion: revB, Mar-2010; PackageReference: Z28+4; PackageDescription: 28-Pin Thin Small-Outline Package, 8.0 x 13.4 mm Body, 0.55 mm Pitch, TSOP(1), Pb-Free; Code_JEDEC: MO-183; ComponentLink1Description: Manufacturer URL; ComponentLink1URL: http://www.maxim-ic.com; ComponentLink2Description: Datasheet; ComponentLink2URL: http://datasheets.maxim-ic.com/en/ds/DS1501-DS1511.pdf; ComponentLink3Description: Package Specification; ComponentLink3URL: http://pdfserv.maxim-ic.com/package_dwgs/21-0273.PDF
footprint Z28+4_N (TSSOP, 28-Leads, Body 8x11.8mm, Pitch 0.55mm, IPC Medium Density)
footprint Z28+4_L (TSSOP, 28-Leads, Body 8x11.8mm, Pitch 0.55mm, IPC High Density)
footprint Z28+4_M (TSSOP, 28-Leads, Body 8x11.8mm, Pitch 0.55mm, IPC Low Density)
pins: 1 ~{OE} (in), 2 SQW (out), 3 ~{KS} (in), 4 VBAT (power), 5 VBAUX (power), 6 ~{WE} (in), 7 VCC (power), 8 ~{PWR} (oc), 9 X1, 10 X2, 11 ~{RST} (oc), 12 ~{IRQ} (oc), 13 A4 (in), 14 A3 (in), 15 A2 (in), 16 A1 (in), 17 A0 (in), 18 DQ0 (io), 19 DQ1 (io), 20 DQ2 (io), 21 GND (power), 22 DQ3 (io), 23 DQ4 (io), 24 DQ5 (io), 25 DQ6 (io), 26 DQ7 (io), 27 ~{CE} (in), 28 GND (power)

## DS1501YEN+
designator U?
Y2K-Compliant Watchdog Real-Time Clock, 5.0V, 28-Pin TSOP, -40 to 85 degC, Pb-Free; DatasheetVersion: 9-Jan-2009; PackageVersion: revB, Mar-2010; PackageReference: Z28+4; PackageDescription: 28-Pin Thin Small-Outline Package, 8.0 x 13.4 mm Body, 0.55 mm Pitch, TSOP(1), Pb-Free; Code_JEDEC: MO-183; ComponentLink1Description: Manufacturer URL; ComponentLink1URL: http://www.maxim-ic.com; ComponentLink2Description: Datasheet; ComponentLink2URL: http://datasheets.maxim-ic.com/en/ds/DS1501-DS1511.pdf; ComponentLink3Description: Package Specification; ComponentLink3URL: http://pdfserv.maxim-ic.com/package_dwgs/21-0273.PDF
footprint Z28+4_N (TSSOP, 28-Leads, Body 8x11.8mm, Pitch 0.55mm, IPC Medium Density)
footprint Z28+4_L (TSSOP, 28-Leads, Body 8x11.8mm, Pitch 0.55mm, IPC High Density)
footprint Z28+4_M (TSSOP, 28-Leads, Body 8x11.8mm, Pitch 0.55mm, IPC Low Density)
pins: 1 ~{OE} (in), 2 SQW (out), 3 ~{KS} (in), 4 VBAT (power), 5 VBAUX (power), 6 ~{WE} (in), 7 VCC (power), 8 ~{PWR} (oc), 9 X1, 10 X2, 11 ~{RST} (oc), 12 ~{IRQ} (oc), 13 A4 (in), 14 A3 (in), 15 A2 (in), 16 A1 (in), 17 A0 (in), 18 DQ0 (io), 19 DQ1 (io), 20 DQ2 (io), 21 GND (power), 22 DQ3 (io), 23 DQ4 (io), 24 DQ5 (io), 25 DQ6 (io), 26 DQ7 (io), 27 ~{CE} (in), 28 GND (power)

## DS1501YEN+T&R
designator U?
Y2K-Compliant Watchdog Real-Time Clock, 5.0V, 28-Pin TSOP, -40 to 85 degC, Pb-Free, Reel; DatasheetVersion: 9-Jan-2009; PackageVersion: revB, Mar-2010; PackageReference: Z28+4; PackageDescription: 28-Pin Thin Small-Outline Package, 8.0 x 13.4 mm Body, 0.55 mm Pitch, TSOP(1), Pb-Free; Code_JEDEC: MO-183; ComponentLink1Description: Manufacturer URL; ComponentLink1URL: http://www.maxim-ic.com; ComponentLink2Description: Datasheet; ComponentLink2URL: http://datasheets.maxim-ic.com/en/ds/DS1501-DS1511.pdf; ComponentLink3Description: Package Specification; ComponentLink3URL: http://pdfserv.maxim-ic.com/package_dwgs/21-0273.PDF
footprint Z28+4_N (TSSOP, 28-Leads, Body 8x11.8mm, Pitch 0.55mm, IPC Medium Density)
footprint Z28+4_L (TSSOP, 28-Leads, Body 8x11.8mm, Pitch 0.55mm, IPC High Density)
footprint Z28+4_M (TSSOP, 28-Leads, Body 8x11.8mm, Pitch 0.55mm, IPC Low Density)
pins: 1 ~{OE} (in), 2 SQW (out), 3 ~{KS} (in), 4 VBAT (power), 5 VBAUX (power), 6 ~{WE} (in), 7 VCC (power), 8 ~{PWR} (oc), 9 X1, 10 X2, 11 ~{RST} (oc), 12 ~{IRQ} (oc), 13 A4 (in), 14 A3 (in), 15 A2 (in), 16 A1 (in), 17 A0 (in), 18 DQ0 (io), 19 DQ1 (io), 20 DQ2 (io), 21 GND (power), 22 DQ3 (io), 23 DQ4 (io), 24 DQ5 (io), 25 DQ6 (io), 26 DQ7 (io), 27 ~{CE} (in), 28 GND (power)

## DS1501YN+
designator U?
Y2K-Compliant Watchdog Real-Time Clock, 5.0V, 28-Pin PDIP, -40 to 85 degC, Pb-Free; DatasheetVersion: 9-Jan-2009; PackageVersion: revD, 2011; PackageReference: P28+5; PackageDescription: 28-Pin Plastic Dual-In-Line, 0.6in Wide, PDIP(W), Pb-Free; Code_JEDEC: MS-011-AB; ComponentLink1Description: Manufacturer URL; ComponentLink1URL: http://www.maxim-ic.com; ComponentLink2Description: Datasheet; ComponentLink2URL: http://datasheets.maxim-ic.com/en/ds/DS1501-DS1511.pdf; ComponentLink3Description: Package Specification; ComponentLink3URL: http://pdfserv.maxim-ic.com/package_dwgs/21-0044.PDF
footprint P28+5 (DIP, 28-Leads, Row Spacing 15.24mm, Pitch 2.54mm, Body 36.8x14mm)
pins: 1 ~{PWR} (oc), 2 X1, 3 X2, 4 ~{RST} (oc), 5 ~{IRQ} (oc), 6 A4 (in), 7 A3 (in), 8 A2 (in), 9 A1 (in), 10 A0 (in), 11 DQ0 (io), 12 DQ1 (io), 13 DQ2 (io), 14 GND (power), 15 DQ3 (io), 16 DQ4 (io), 17 DQ5 (io), 18 DQ6 (io), 19 DQ7 (io), 20 ~{CE} (in), 21 GND (power), 22 ~{OE} (in), 23 SQW (out), 24 ~{KS} (in), 25 VBAT (power), 26 VBAUX (power), 27 ~{WE} (in), 28 VCC (power)

## DS1501YZ+
designator U?
Y2K-Compliant Watchdog Real-Time Clock, 5.0V, 28-Pin SO, 0 to 70 degC, Pb-Free; DatasheetVersion: 9-Jan-2009; PackageVersion: revD, 2010; PackageReference: W28+3; PackageDescription: 28-Pin Small-Outline IC, Wide (0.3in), 1.27 mm Pitch, SOIC (W), Pb-Free; Code_JEDEC: MS-013-AE; ComponentLink1Description: Manufacturer URL; ComponentLink1URL: http://www.maxim-ic.com; ComponentLink2Description: Datasheet; ComponentLink2URL: http://datasheets.maxim-ic.com/en/ds/DS1501-DS1511.pdf; ComponentLink3Description: Package Specification; ComponentLink3URL: http://pdfserv.maxim-ic.com/package_dwgs/21-0042.PDF
footprint W28+3_N (SOIC, 28-Leads, Body 17.9x7.5mm, Pitch 1.27mm, IPC Medium Density)
footprint W28+3_L (SOIC, 28-Leads, Body 17.9x7.5mm, Pitch 1.27mm, IPC High Density)
footprint W28+3_M (SOIC, 28-Leads, Body 17.9x7.5mm, Pitch 1.27mm, IPC Low Density)
pins: 1 ~{PWR} (oc), 2 X1, 3 X2, 4 ~{RST} (oc), 5 ~{IRQ} (oc), 6 A4 (in), 7 A3 (in), 8 A2 (in), 9 A1 (in), 10 A0 (in), 11 DQ0 (io), 12 DQ1 (io), 13 DQ2 (io), 14 GND (power), 15 DQ3 (io), 16 DQ4 (io), 17 DQ5 (io), 18 DQ6 (io), 19 DQ7 (io), 20 ~{CE} (in), 21 GND (power), 22 ~{OE} (in), 23 SQW (out), 24 ~{KS} (in), 25 VBAT (power), 26 VBAUX (power), 27 ~{WE} (in), 28 VCC (power)

## DS1501YZ+T&R
designator U?
Y2K-Compliant Watchdog Real-Time Clock, 5.0V, 28-Pin SO, 0 to 70 degC, Pb-Free, Reel; DatasheetVersion: 9-Jan-2009; PackageVersion: revD, 2010; PackageReference: W28+3; PackageDescription: 28-Pin Small-Outline IC, Wide (0.3in), 1.27 mm Pitch, SOIC (W), Pb-Free; Code_JEDEC: MS-013-AE; ComponentLink1Description: Manufacturer URL; ComponentLink1URL: http://www.maxim-ic.com; ComponentLink2Description: Datasheet; ComponentLink2URL: http://datasheets.maxim-ic.com/en/ds/DS1501-DS1511.pdf; ComponentLink3Description: Package Specification; ComponentLink3URL: http://pdfserv.maxim-ic.com/package_dwgs/21-0042.PDF
footprint W28+3_N (SOIC, 28-Leads, Body 17.9x7.5mm, Pitch 1.27mm, IPC Medium Density)
footprint W28+3_L (SOIC, 28-Leads, Body 17.9x7.5mm, Pitch 1.27mm, IPC High Density)
footprint W28+3_M (SOIC, 28-Leads, Body 17.9x7.5mm, Pitch 1.27mm, IPC Low Density)
pins: 1 ~{PWR} (oc), 2 X1, 3 X2, 4 ~{RST} (oc), 5 ~{IRQ} (oc), 6 A4 (in), 7 A3 (in), 8 A2 (in), 9 A1 (in), 10 A0 (in), 11 DQ0 (io), 12 DQ1 (io), 13 DQ2 (io), 14 GND (power), 15 DQ3 (io), 16 DQ4 (io), 17 DQ5 (io), 18 DQ6 (io), 19 DQ7 (io), 20 ~{CE} (in), 21 GND (power), 22 ~{OE} (in), 23 SQW (out), 24 ~{KS} (in), 25 VBAT (power), 26 VBAUX (power), 27 ~{WE} (in), 28 VCC (power)

## DS1501YZN+
designator U?
Y2K-Compliant Watchdog Real-Time Clock, 5.0V, 28-Pin SO, -40 to 85 degC, Pb-Free; DatasheetVersion: 9-Jan-2009; PackageVersion: revD, 2010; PackageReference: W28+3; PackageDescription: 28-Pin Small-Outline IC, Wide (0.3in), 1.27 mm Pitch, SOIC (W), Pb-Free; Code_JEDEC: MS-013-AE; ComponentLink1Description: Manufacturer URL; ComponentLink1URL: http://www.maxim-ic.com; ComponentLink2Description: Datasheet; ComponentLink2URL: http://datasheets.maxim-ic.com/en/ds/DS1501-DS1511.pdf; ComponentLink3Description: Package Specification; ComponentLink3URL: http://pdfserv.maxim-ic.com/package_dwgs/21-0042.PDF
footprint W28+3_N (SOIC, 28-Leads, Body 17.9x7.5mm, Pitch 1.27mm, IPC Medium Density)
footprint W28+3_L (SOIC, 28-Leads, Body 17.9x7.5mm, Pitch 1.27mm, IPC High Density)
footprint W28+3_M (SOIC, 28-Leads, Body 17.9x7.5mm, Pitch 1.27mm, IPC Low Density)
pins: 1 ~{PWR} (oc), 2 X1, 3 X2, 4 ~{RST} (oc), 5 ~{IRQ} (oc), 6 A4 (in), 7 A3 (in), 8 A2 (in), 9 A1 (in), 10 A0 (in), 11 DQ0 (io), 12 DQ1 (io), 13 DQ2 (io), 14 GND (power), 15 DQ3 (io), 16 DQ4 (io), 17 DQ5 (io), 18 DQ6 (io), 19 DQ7 (io), 20 ~{CE} (in), 21 GND (power), 22 ~{OE} (in), 23 SQW (out), 24 ~{KS} (in), 25 VBAT (power), 26 VBAUX (power), 27 ~{WE} (in), 28 VCC (power)